# EAGLE library part SI4564 (library PCB_KioskMB_r3.3-05)
MOSFET N/P-CH 40V 10A 8SOIC
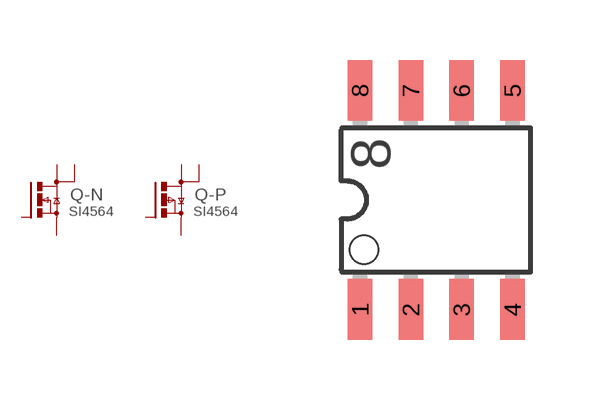
[diagram p28: symbol with the pads of SO-08; footprint SO-08]

Designator prefix Q; gates -N=MOSFET-N_2D -P=MOSFET-P_2D

## SI4564DY  [SO-08]
1  -N:S  pas
2  -N:G  pas
3  -P:S  pas
4  -P:G  pas
5  -P:D  pas
6  -P:D1  pas
7  -N:D  pas
8  -N:D1  pas

## Footprint SO-08 (pad centres in mm)
smd 0.61 x 1.524: 1 -1.905,-2.743; 2 -0.635,-2.743; 3 0.635,-2.743; 4 1.905,-2.743; 5 1.905,2.743; 6 0.635,2.743; 7 -0.635,2.743; 8 -1.905,2.743